# Altium integrated library Motorola Power Mgt Switching Regulator.IntLib: 8 symbols
Pins are listed as number, name and electrical type; pins without a type are passive.

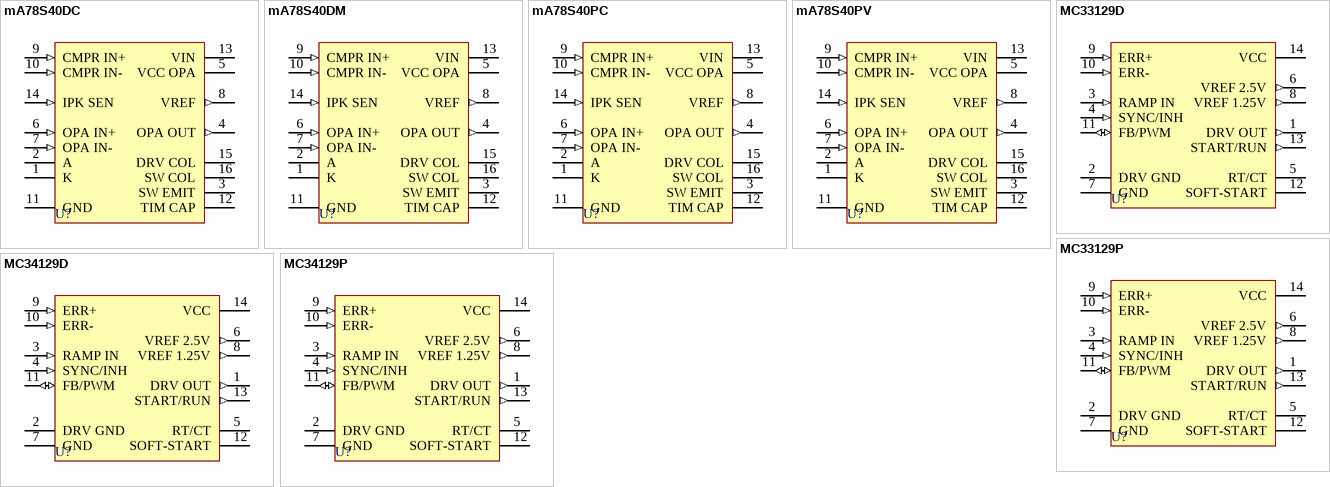
[diagram p0: symbols mA78S40DC to MC34129P]

## mA78S40DC
designator U?
Universal Switching Regulator Subsystem; Published: 17-Jul-2002; LatestRevisionDate: 06-Jun-2005; LatestRevisionNote: Stylized 3D Model Added.; DatasheetVersion: 1988; PackageReference: 620-10; Publisher: Altium Limited; PackageDescription: DIP; 16 Leads; Row Spacing 7.62 mm; Pitch 2.54 mm; ComponentLink1Description: Manufacturer Link; ComponentLink1URL: http://www.onsemi.com/site/products/taxonomy/0,4438,503,00.html
footprint 620-10 (DIP; 16 Leads; Row Spacing 7.62 mm; Pitch 2.54 mm)
3D model 620-10 (DIP; 16 Leads; Row Spacing 7.62 mm; Pitch 2.54 mm)
pins: 1 K, 2 A, 3 SW EMIT, 4 OPA OUT (out), 5 VCC OPA (power), 6 OPA IN+ (in), 7 OPA IN- (in), 8 VREF (out), 9 CMPR IN+ (in), 10 CMPR IN- (in), 11 GND (power), 12 TIM CAP, 13 VIN (power), 14 IPK SEN (in), 15 DRV COL (oc), 16 SW COL (oc)

## mA78S40DM
designator U?
Universal Switching Regulator Subsystem; Published: 17-Jul-2002; LatestRevisionDate: 06-Jun-2005; LatestRevisionNote: Stylized 3D Model Added.; DatasheetVersion: 1988; PackageReference: 620-10; Publisher: Altium Limited; PackageDescription: DIP; 16 Leads; Row Spacing 7.62 mm; Pitch 2.54 mm; ComponentLink1Description: Manufacturer Link; ComponentLink1URL: http://www.onsemi.com/site/products/taxonomy/0,4438,503,00.html
footprint 620-10 (DIP; 16 Leads; Row Spacing 7.62 mm; Pitch 2.54 mm)
3D model 620-10 (DIP; 16 Leads; Row Spacing 7.62 mm; Pitch 2.54 mm)
pins: 1 K, 2 A, 3 SW EMIT, 4 OPA OUT (out), 5 VCC OPA (power), 6 OPA IN+ (in), 7 OPA IN- (in), 8 VREF (out), 9 CMPR IN+ (in), 10 CMPR IN- (in), 11 GND (power), 12 TIM CAP, 13 VIN (power), 14 IPK SEN (in), 15 DRV COL (oc), 16 SW COL (oc)

## mA78S40PC
designator U?
Universal Switching Regulator Subsystem; Published: 17-Jul-2002; LatestRevisionDate: 06-Jun-2005; LatestRevisionNote: Stylized 3D Model Added.; DatasheetVersion: 1988; PackageReference: 648-06; Publisher: Altium Limited; PackageDescription: DIP; 16 Leads; Row Spacing 7.62 mm; Pitch 2.54 mm; ComponentLink1Description: Manufacturer Link; ComponentLink1URL: http://www.onsemi.com/site/products/taxonomy/0,4438,503,00.html
footprint 648-06 (DIP; 16 Leads; Row Spacing 7.62 mm; Pitch 2.54 mm)
3D model 648-06 (DIP; 16 Leads; Row Spacing 7.62 mm; Pitch 2.54 mm)
pins: 1 K, 2 A, 3 SW EMIT, 4 OPA OUT (out), 5 VCC OPA (power), 6 OPA IN+ (in), 7 OPA IN- (in), 8 VREF (out), 9 CMPR IN+ (in), 10 CMPR IN- (in), 11 GND (power), 12 TIM CAP, 13 VIN (power), 14 IPK SEN (in), 15 DRV COL (oc), 16 SW COL (oc)

## mA78S40PV
designator U?
Universal Switching Regulator Subsystem; Published: 17-Jul-2002; LatestRevisionDate: 06-Jun-2005; LatestRevisionNote: Stylized 3D Model Added.; DatasheetVersion: 1988; PackageReference: 648-06; Publisher: Altium Limited; PackageDescription: DIP; 16 Leads; Row Spacing 7.62 mm; Pitch 2.54 mm; ComponentLink1Description: Manufacturer Link; ComponentLink1URL: http://www.onsemi.com/site/products/taxonomy/0,4438,503,00.html
footprint 648-06 (DIP; 16 Leads; Row Spacing 7.62 mm; Pitch 2.54 mm)
3D model 648-06 (DIP; 16 Leads; Row Spacing 7.62 mm; Pitch 2.54 mm)
pins: 1 K, 2 A, 3 SW EMIT, 4 OPA OUT (out), 5 VCC OPA (power), 6 OPA IN+ (in), 7 OPA IN- (in), 8 VREF (out), 9 CMPR IN+ (in), 10 CMPR IN- (in), 11 GND (power), 12 TIM CAP, 13 VIN (power), 14 IPK SEN (in), 15 DRV COL (oc), 16 SW COL (oc)

## MC33129D
designator U?
High-Performance Current Mode Controller; Published: 17-Jul-2002; LatestRevisionDate: 13-Apr-2006; LatestRevisionNote: IPC-7351 Footprint Added.; DatasheetVersion: 1988; PackageVersion: 1991; PackageReference: 751A-02; Publisher: Altium Limited; PackageDescription: 14-Pin Small Outline Integrated Circuit 1.27 mm Pitch; Code_IPC: SOIC127P600-14; ComponentLink1Description: Manufacturer Link; ComponentLink1URL: http://www.onsemi.com/site/products/taxonomy/0,4438,503,00.html
footprint 751A-02_N (SOIC, 14-Leads, Body 8.7x3.9mm, Pitch 1.27mm, IPC Medium Density)
footprint 751A-02_L (SOIC, 14-Leads, Body 8.7x3.9mm, Pitch 1.27mm, IPC High Density)
footprint 751A-02_M (SOIC, 14-Leads, Body 8.7x3.9mm, Pitch 1.27mm, IPC Low Density)
3D model 751A-02 (14-Pin Small Outline Integrated Circuit 1.27 mm Pitch)
pins: 1 DRV OUT (out), 2 DRV GND (power), 3 RAMP IN (in), 4 SYNC/INH (in), 5 RT/CT, 6 VREF 2.5V (out), 7 GND (power), 8 VREF 1.25V (out), 9 ERR+ (in), 10 ERR- (in), 11 FB/PWM (io), 12 SOFT-START, 13 START/RUN (out), 14 VCC (power)

## MC33129P
designator U?
High-Performance Current Mode Controller; Published: 17-Jul-2002; LatestRevisionDate: 06-Jun-2005; LatestRevisionNote: Stylized 3D Model Added.; DatasheetVersion: 1988; PackageVersion: 1997; PackageReference: 646-06; Publisher: Altium Limited; PackageDescription: DIP; 14 Leads; Row Spacing 7.62 mm; Pitch 2.54 mm; ComponentLink1Description: Manufacturer Link; ComponentLink1URL: http://www.onsemi.com/site/products/taxonomy/0,4438,503,00.html
footprint 646-06 (DIP; 14 Leads; Row Spacing 7.62 mm; Pitch 2.54 mm)
3D model 646-06 (DIP; 14 Leads; Row Spacing 7.62 mm; Pitch 2.54 mm)
pins: 1 DRV OUT (out), 2 DRV GND (power), 3 RAMP IN (in), 4 SYNC/INH (in), 5 RT/CT, 6 VREF 2.5V (out), 7 GND (power), 8 VREF 1.25V (out), 9 ERR+ (in), 10 ERR- (in), 11 FB/PWM (io), 12 SOFT-START, 13 START/RUN (out), 14 VCC (power)

## MC34129D
designator U?
High-Performance Current Mode Controller; Published: 17-Jul-2002; LatestRevisionDate: 13-Apr-2006; LatestRevisionNote: IPC-7351 Footprint Added.; DatasheetVersion: 1989; PackageVersion: 1991; PackageReference: 751A-02; Publisher: Altium Limited; PackageDescription: 14-Pin Small Outline Integrated Circuit 1.27 mm Pitch; Code_IPC: SOIC127P600-14; ComponentLink1Description: Manufacturer Link; ComponentLink1URL: http://www.onsemi.com/site/products/taxonomy/0,4438,503,00.html
footprint 751A-02_N (SOIC, 14-Leads, Body 8.7x3.9mm, Pitch 1.27mm, IPC Medium Density)
footprint 751A-02_L (SOIC, 14-Leads, Body 8.7x3.9mm, Pitch 1.27mm, IPC High Density)
footprint 751A-02_M (SOIC, 14-Leads, Body 8.7x3.9mm, Pitch 1.27mm, IPC Low Density)
3D model 751A-02 (14-Pin Small Outline Integrated Circuit 1.27 mm Pitch)
pins: 1 DRV OUT (out), 2 DRV GND (power), 3 RAMP IN (in), 4 SYNC/INH (in), 5 RT/CT, 6 VREF 2.5V (out), 7 GND (power), 8 VREF 1.25V (out), 9 ERR+ (in), 10 ERR- (in), 11 FB/PWM (io), 12 SOFT-START, 13 START/RUN (out), 14 VCC (power)

## MC34129P
designator U?
High-Performance Current Mode Controller; Published: 17-Jul-2002; LatestRevisionDate: 06-Jun-2005; LatestRevisionNote: Stylized 3D Model Added.; DatasheetVersion: 1989; PackageVersion: 1997; PackageReference: 646-06; Publisher: Altium Limited; PackageDescription: DIP; 14 Leads; Row Spacing 7.62 mm; Pitch 2.54 mm; ComponentLink1Description: Manufacturer Link; ComponentLink1URL: http://www.onsemi.com/site/products/taxonomy/0,4438,503,00.html
footprint 646-06 (DIP; 14 Leads; Row Spacing 7.62 mm; Pitch 2.54 mm)
3D model 646-06 (DIP; 14 Leads; Row Spacing 7.62 mm; Pitch 2.54 mm)
pins: 1 DRV OUT (out), 2 DRV GND (power), 3 RAMP IN (in), 4 SYNC/INH (in), 5 RT/CT, 6 VREF 2.5V (out), 7 GND (power), 8 VREF 1.25V (out), 9 ERR+ (in), 10 ERR- (in), 11 FB/PWM (io), 12 SOFT-START, 13 START/RUN (out), 14 VCC (power)